# Altium footprint library PcbLib1.PcbLib: 7 footprints
Each footprint in its own frame and in the unit in brackets; x right, y up, seen from the top. Pads: shape width x height; smd on the part's side, far side on the other; paste and mask are expansions set on the pad; w line width, h text height; cw(c..) or ccw(c..) is an arc to the next point about the centre after c.
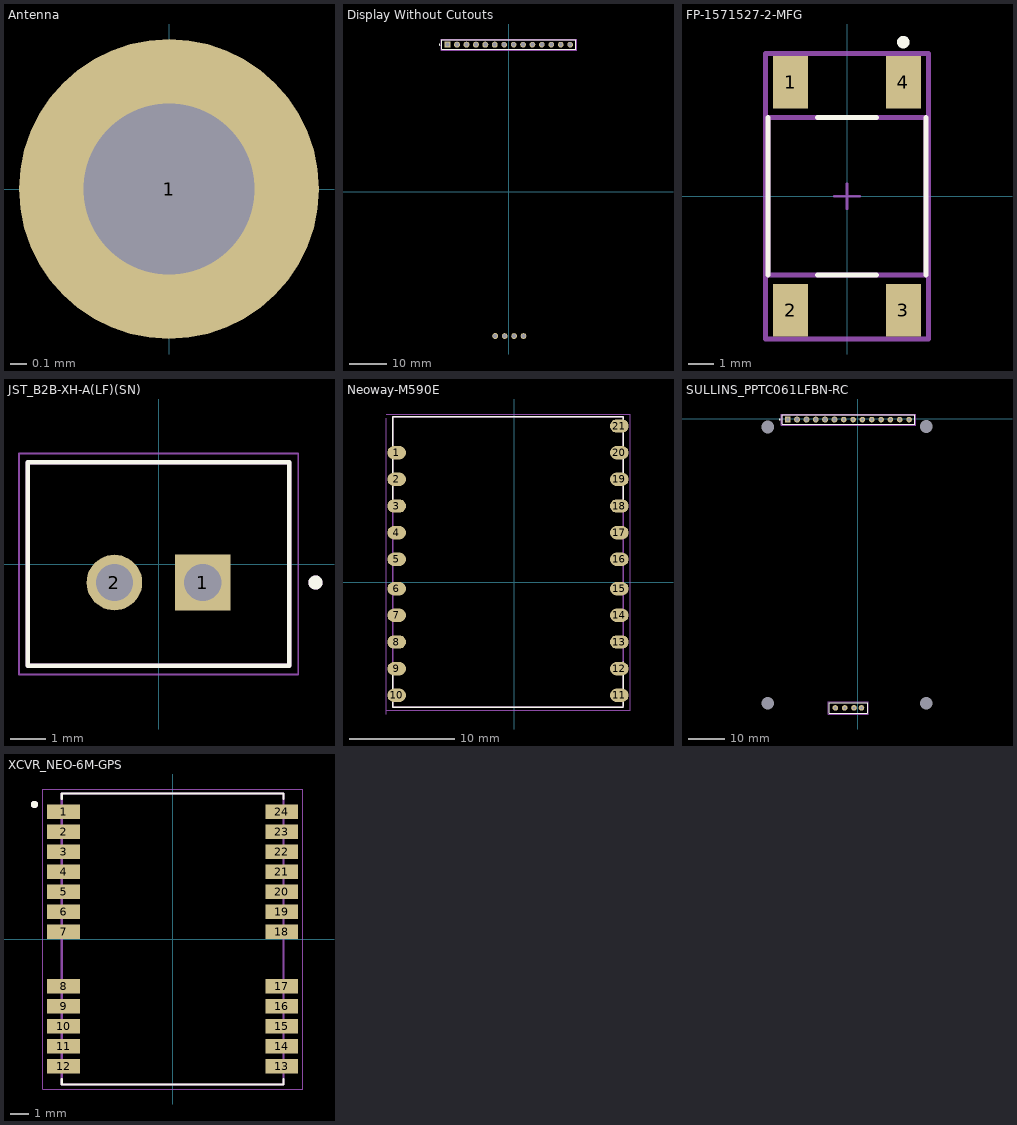
[diagram p0: the footprints below, top view; thin cyan lines are the x and y axes]

## Antenna [mil]
pads (1):
  round 70 hole 40: 1(0,0)

## Display Without Cutouts [mil]
height 334.65
pads (18):
  rect 63.19x63.19 / inner round 63.19 / far side rect 63.19x63.19 hole 42.13: 1(-650,1560)
  round 63.19 hole 42.13: 2(-550,1560) 3(-450,1560) 4(-350,1560) 5(-250,1560) 6(-150,1560) 6(-145,-1530)
  round 60 hole 42: 7(-50,1560) 8(50,1560) 9(150,1560) 10(250,1560) 11(350,1560) 12(450,1560) 13(550,1560) 14(650,1560)
  round 60 hole 40: 7(-45,-1530) 8(55,-1530) 9(155,-1530)
Top Overlay:
  circle w7.87: c-734.65,1560 r3.94
  lines w5: -709.84,1510 -709.84,1610 710,1610 710,1510 -709.84,1510
Mechanical 13:
  lines w5: -709.84,1510 -709.84,1610 710,1610 710,1510 -709.84,1510
Mechanical 15:
  lines w1.97: -719.68,1500.16 720,1500.16 720,1619.84 -719.68,1619.84 -719.68,1500.16
3D body "TFT LCD 2.8inch ILI9341.step": height 319.61, standoff -227.64, extent -983.9,-1610 985,1610.91

## FP-1571527-2-MFG [mm]
pads (4):
  rect 1.4x2.1 smd paste+0 mask+0: 1(-2.25,4.55) 2(-2.25,-4.55) 3(2.25,-4.55) 4(2.25,4.55)
Top Overlay:
  circle w0.25: c2.25,6.15 r0.125
  lines w0.2: -3.15,-3.15 -3.15,3.15 ; -1.175,-3.15 1.175,-3.15 ; -1.175,3.15 1.175,3.15 ; 3.15,-3.15 3.15,3.15
Top 3D Body:
  lines w0.2: -3.15,-3.15 -3.15,3.15 3.15,3.15 3.15,-3.15 -3.15,-3.15
Top Courtyard:
  lines w0.2: -3.25,-5.7 -3.25,5.7 3.25,5.7 3.25,-5.7 -3.25,-5.7
Top Assembly:
  lines w0.2: -3.25,-5.7 -3.25,5.7 3.25,5.7 3.25,-5.7 -3.25,-5.7
  text ".Designator" at 0,0.188 h1
Top Component Center:
  lines w0.1: -0.5,0 0.5,0 ; 0,-0.5 0,0.5
3D body "Switch_TE_Connectivity_1571527-2_eec.STEP": height 0.25, standoff 0, extent -3.25,-5.7 3.25,5.7

## JST_B2B-XH-A(LF)(SN) [mm]
height 7
pads (2):
  rect 1.575x1.575 / inner round 1.575 / far side rect 1.575x1.575 hole 1.05: 1(1.25,-0.525)
  round 1.575 hole 1.05: 2(-1.25,-0.525)
Top Overlay:
  circle w0.2: c4.44,-0.525 r0.1
  lines w0.127: -3.7,-2.875 -3.7,2.875 3.7,2.875 3.7,-2.875 -3.7,-2.875
Mechanical 13:
  circle w0.2: c4.44,-0.525 r0.1
  lines w0.127: -3.7,-2.875 -3.7,2.875 3.7,2.875 3.7,-2.875 -3.7,-2.875
Mechanical 15:
  lines w0.05: -3.95,-3.125 3.95,-3.125 3.95,3.125 -3.95,3.125 -3.95,-3.125
3D body "step_temp.STEP": height 7, standoff -3.4, extent -3.7,-2.875 3.7,2.875

## Neoway-M590E [mil]
pads (21):
  oval 70x50 smd paste-78.74: 1(-440,485) 2(-440,385) 3(-440,285) 4(-440,185) 5(-440,85) 6(-440,-25) 7(-440,-125) 8(-440,-225) 9(-440,-325) 10(-440,-425) 11(395,-425) 12(395,-325) 13(395,-225) 14(395,-125) 15(395,-25) 16(395,85) 17(395,185) 18(395,285) 19(395,385) 20(395,485) 21(395,585)
Top Overlay:
  lines w5: -455,-303.94 -455,-470 410,-470 ; -455,303.94 -455,620 410,620 410,303.94 ; 410,-465 410,-298.94
Top Paste:
  drawing of 21 lines, arcs and shapes, not listed
Mechanical 13:
  lines w5: -455,-470 410,-470 410,620 -455,620 -455,-470
Mechanical 15:
  lines w1.97: -480,-495 -480,615 ; -480,-480 435,-480 435,630 -480,630
3D body "M590 Neoway.stp": height 100.39, standoff -0.71, extent -445.39,-468.31 405,618.31

## SULLINS_PPTC061LFBN-RC [mil]
height 334.65
pads (22):
  rect 63.19x63.19 / inner round 63.19 / far side rect 63.19x63.19 hole 42.13: 1(-750,-10)
  round 63.19 hole 42.13: 2(-650,-10) 3(-550,-10) 4(-450,-10) 5(-350,-10) 6(-250,-10)
  round 60 hole 30: 7(-150,-10) 8(-50,-10) 9(50,-10) 10(150,-10) 11(250,-10) 12(350,-10) 13(450,-10) 14(550,-10) ""(-240,-3100) ""(-140,-3100) ""(-40,-3100) ""(40,-3100)
  round 0 hole 137.8 unplated: ""(-965,-3050) ""(-965,-90) ""(735,-3050) ""(735,-85)
Top Overlay:
  circle w7.87: c-834.65,-10 r3.94
  lines w5: -809.84,-60 -809.84,40 610,40 610,-60 -809.84,-60
  lines w10: 100,-3155 -305,-3155 -305,-3045 105,-3045 105,-3155
Mechanical 13:
  lines w5: -809.84,-60 -809.84,40 610,40 610,-60 -809.84,-60
Mechanical 15:
  lines w1.97: -819.68,-69.84 620,-69.84 620,49.84 -819.68,49.84 -819.68,-69.84
  lines w4: -315,-3165 -315,-3035 115,-3035 115,-3165 -315,-3165
3D body "step_temp.STEP": height 335, standoff -126, extent -810,-60 -190,40
3D body "step_temp.STEP": height 335, standoff -126, extent -10,-60 610,40
3D body "step_temp.STEP": height 335, standoff -126, extent -210,-60 410,40
3D body "1x4.STEP": height 335, standoff -359.49, extent -300,-3150 100,-3050
3D body "TFT LCD 2.8inch ILI9341.step": height 649.61, standoff 102.36, extent -1083.9,-3180 885,40.91

## XCVR_NEO-6M-GPS [mm]
pads (24):
  rect 1.8x0.8 smd paste-2: 1(-6,7) 2(-6,5.9) 3(-6,4.8) 4(-6,3.7) 5(-6,2.6) 6(-6,1.5) 7(-6,0.4) 8(-6,-2.6) 9(-6,-3.7) 10(-6,-4.8) 11(-6,-5.9) 12(-6,-7) 13(6,-7) 14(6,-5.9) 15(6,-4.8) 16(6,-3.7) 17(6,-2.6) 18(6,0.4) 19(6,1.5) 20(6,2.6) 21(6,3.7) 22(6,4.8) 23(6,5.9) 24(6,7)
Top Overlay:
  circle w0.2: c-7.6,7.4 r0.1
  lines w0.127: -6.1,-7.72 -6.1,-8 6.1,-8 6.1,-7.72 ; -6.1,7.72 -6.1,8 6.1,8 6.1,7.72
Top Paste:
  drawing of 24 lines, arcs and shapes, not listed
Mechanical 13:
  circle w0.2: c-7.6,7.4 r0.1
  lines w0.127: -6.1,-8 6.1,-8 6.1,8 -6.1,8 -6.1,-8
Mechanical 15:
  lines w0.05: -7.15,-8.25 7.15,-8.25 7.15,8.25 -7.15,8.25 -7.15,-8.25
3D body "step_temp.STEP": height 2.6, standoff 0, extent -6.1,-8 6.1,8